# EAGLE library part SPARKFUN_WTV020SD (library srg)
Sparkfun Audio Breakout board for WTV020SD https://www.sparkfun.com/products/11125
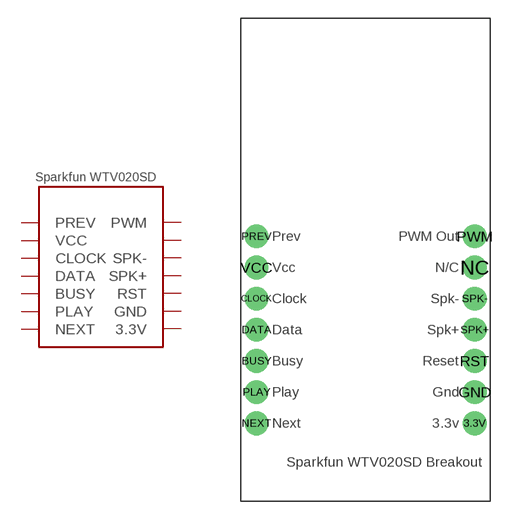
[diagram p8: symbol with the pads of SPARKFUN_WTV020SD_BREAKOUT; footprint SPARKFUN_WTV020SD_BREAKOUT]

Designator prefix -

## SPARKFUN_WTV020SD  [SPARKFUN_WTV020SD_BREAKOUT]
3.3V  3.3V  pwr
BUSY  BUSY  out
CLOCK  CLOCK  in
DATA  DATA
GND  GND  pwr
NC  NC  nc
NEXT  NEXT  in
PLAY  PLAY  in
PREV  PREV  in
PWM  PWM  out
RST  RST  in
SPK+  SPK+  out
SPK-  SPK-  out
VCC  VCC  pwr

## Footprint SPARKFUN_WTV020SD_BREAKOUT (pad centres in mm)
Sparkfun Audio Breakout board for WTV020SD https://www.sparkfun.com/products/11125
drill 1.016 pad 1.93: 3.3V 8.89,-10.16; BUSY -8.89,-5.08; CLOCK -8.89,0; DATA -8.89,-2.54; GND 8.89,-7.62; NC 8.89,2.54; NEXT -8.89,-10.16; PLAY -8.89,-7.62; PREV -8.89,5.08; PWM 8.89,5.08; RST 8.89,-5.08; SPK+ 8.89,-2.54; SPK- 8.89,0; VCC -8.89,2.54